# EAGLE library part MAX5136 (library df4iah_dac)
MAX5136 DAC, 2ch, 16 Bit
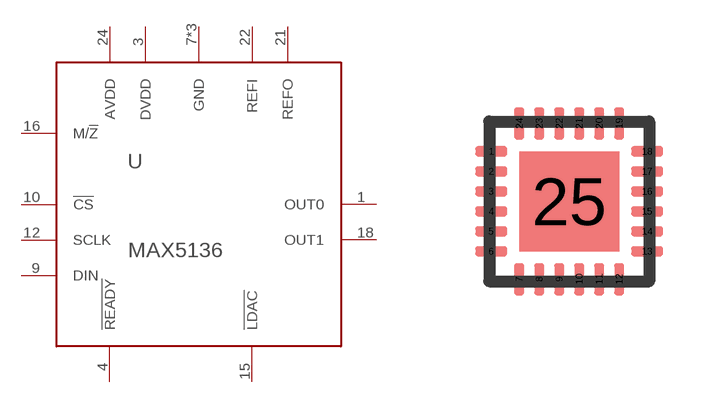
[diagram p1: symbol with the pads of QFN24_P0MM5_CTRPAD; footprint QFN24_P0MM5_CTRPAD]

Designator prefix U

## MAX5136  [QFN24_P0MM5_CTRPAD]
1  OUT0  out
3  DVDD  pas
4  !READY  out
7  GND  pas
9  DIN  in
10  !CS  in
12  SCLK  in
15  !LDAC  in
16  M/!Z  in
18  OUT1  out
19  GND  pas
21  REFO  pas
22  REFI  pas
24  AVDD  pas
25  GND  pas

## Footprint QFN24_P0MM5_CTRPAD (pad centres in mm)
QFN24 - pitch 0.5 mm
smd 0.8 x 0.25: 1 -1.95,1.25; 2 -1.95,0.75; 3 -1.95,0.25; 4 -1.95,-0.25; 5 -1.95,-0.75; 6 -1.95,-1.25; 13 1.95,-1.25; 14 1.95,-0.75; 15 1.95,-0.25; 16 1.95,0.25; 17 1.95,0.75; 18 1.95,1.25
smd 0.25 x 0.8: 7 -1.25,-1.95; 8 -0.75,-1.95; 9 -0.25,-1.95; 10 0.25,-1.95; 11 0.75,-1.95; 12 1.25,-1.95; 19 1.25,1.95; 20 0.75,1.95; 21 0.25,1.95; 22 -0.25,1.95; 23 -0.75,1.95; 24 -1.25,1.95
smd 2.5 x 2.5: 25 0,0